# Altium footprint library PcbLib Arduino.PcbLib: 4 footprints
Each footprint in its own frame and in the unit in brackets; x right, y up, seen from the top. Pads: shape width x height; smd on the part's side, far side on the other; paste and mask are expansions set on the pad; w line width, h text height; cw(c..) or ccw(c..) is an arc to the next point about the centre after c.
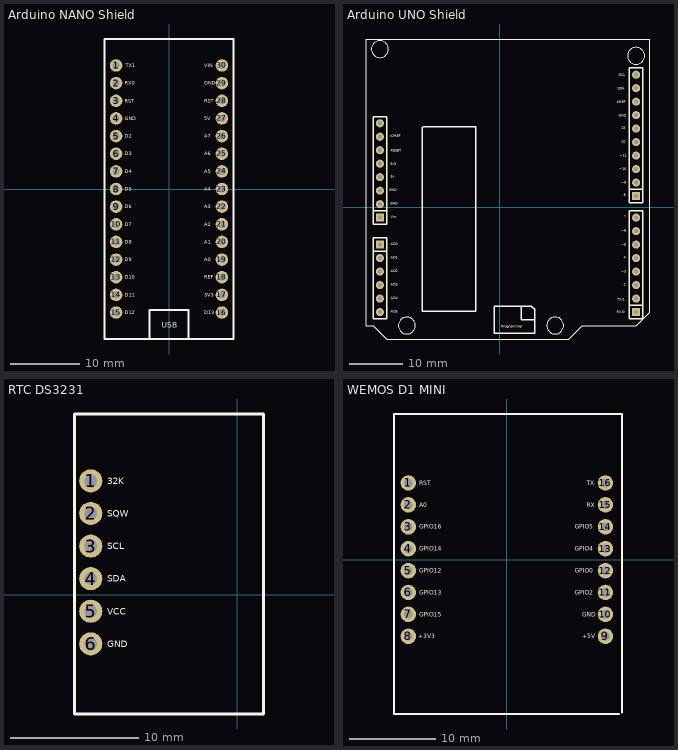
[diagram p0: the footprints below, top view; thin cyan lines are the x and y axes]

## Arduino NANO Shield [mm] "Arduino Nano footprint"
pads (30):
  round 1.8 hole 1: 1(-7.62,17.78) 2(-7.62,15.24) 3(-7.62,12.7) 4(-7.62,10.16) 5(-7.62,7.62) 6(-7.62,5.08) 7(-7.62,2.54) 8(-7.62,0) 9(-7.62,-2.54) 10(-7.62,-5.08) 11(-7.62,-7.62) 12(-7.62,-10.16) 13(-7.62,-12.7) 14(-7.62,-15.24) 15(-7.62,-17.78) 16(7.62,-17.78) 17(7.62,-15.24) 18(7.62,-12.7) 19(7.62,-10.16) 20(7.62,-7.62) 21(7.62,-5.08) 22(7.62,-2.54) 23(7.62,0) 24(7.62,2.54) 25(7.62,5.08) 26(7.62,7.62) 27(7.62,10.16) 28(7.62,12.7) 29(7.62,15.24) 30(7.62,17.78)
Top Overlay:
  lines w0.254: -2.794,-21.59 -2.794,-17.399 2.794,-17.399 2.794,-21.59 ; -9.271,-21.59 -9.271,21.59 9.271,21.59 9.271,-21.59 -9.271,-21.59
  text "TX1" at -6.223,17.526 h0.51
  text "RX0" at -6.35,14.986 h0.51
  text "RST" at -6.35,12.446 h0.51
  text "GND" at -6.35,9.906 h0.51
  text "D2" at -6.35,7.366 h0.51
  text "D3" at -6.35,4.826 h0.51
  text "D4" at -6.35,2.286 h0.51
  text "D5" at -6.35,-0.254 h0.51
  text "D6" at -6.35,-2.794 h0.51
  text "D7" at -6.35,-5.334 h0.51
  text "D8" at -6.35,-7.874 h0.51
  text "D9" at -6.35,-10.414 h0.51
  text "D10" at -6.35,-12.954 h0.51
  text "D11" at -6.35,-15.494 h0.51
  text "D12" at -6.35,-18.034 h0.51
  text "D13" at 5.08,-18.034 h0.51
  text "3V3" at 5.08,-15.494 h0.51
  text "REF" at 5.08,-12.954 h0.51
  text "A0" at 5.08,-10.414 h0.51
  text "A1" at 5.08,-7.874 h0.51
  text "A2" at 5.08,-5.334 h0.51
  text "A3" at 5.08,-2.794 h0.51
  text "A4" at 5.08,-0.254 h0.51
  text "A5" at 5.08,2.286 h0.51
  text "A6" at 5.08,4.826 h0.51
  text "A7" at 5.08,7.366 h0.51
  text "5V" at 5.08,9.906 h0.51
  text "RST" at 5.08,12.446 h0.51
  text "GND" at 5.08,14.986 h0.51
  text "VIN" at 5.08,17.526 h0.51
  text "USB" at -1.016,-19.939 h0.76

## Arduino UNO Shield [mil] "Arduino UNO Shield Footprint"
pads (32):
  round 60 hole 30: P1.1(-888,621) P1.2(-888,521) P1.3(-888,421) P1.4(-888,321) P1.5(-888,221) P1.6(-888,121) P1.7(-888,21) P2.2(-888,-379) P2.3(-888,-479) P2.4(-888,-579) P2.5(-888,-679) P2.6(-888,-779) P3.2(1012,-679) P3.3(1012,-579) P3.4(1012,-479) P3.5(1012,-379) P3.6(1012,-279) P3.7(1012,-179) P3.8(1012,-79) P4.2(1012,181) P4.3(1012,281) P4.4(1012,381) P4.5(1012,481) P4.6(1012,581) P4.7(1012,681) P4.8(1012,781) P4.9(1012,881) P4.10(1012,981)
  rect 60x60 hole 30: P1.8(-888,-79) P2.1(-888,-279) P3.1(1012,-779) P4.1(1012,81)
Top Overlay:
  circle w5: c-888,1171 r62.99
  circle w5: c1012,1121 r62.99
  circle w5: c412,-879 r62.99
  circle w5: c-688,-879 r62.99
  lines w5: -988,-879 -988,1246 1112,1246 1112,-779 1012,-879 612,-879 512,-979 -838,-979 -938,-879 -988,-879
  lines w10: -938,-29 -838,-29 ; 160.03,-734.51 160.03,-834.51 260.03,-834.51 ; 962,-729 1062,-729 ; -938,-329 -938,-829 -838,-829 -838,-329 ; -938,-329 -838,-329 ; -938,-329 -938,-229 -888,-229 -838,-229 -838,-329 ; 962,131 962,31 1062,31 1062,131 ; 962,131 1062,131 ; 962,131 962,1031 1062,1031 1062,131 ; -938,-129 -838,-129 -838,671 -938,671 -938,-129 ; -573,-774 -573,591 -568,596 -179,596 -179,-774 -573,-774 ; -39.97,-934.51 -39.97,-734.51 235.03,-734.51 260.03,-759.51 260.03,-934.51 -39.97,-934.51 ; 962,-829 1062,-829 1062,-29 962,-29 962,-829
  text "Programmer" at 12,-894 h20
  text "AREF" at 867,771 h20
  text "GND" at 882,671 h20
  text "13" at 902,576 h20
  text "12" at 902,476 h20
  text "~11" at 892,371 h20
  text "~10" at 887,271 h20
  text "~9" at 902,171 h20
  text "8" at 922,81 h20
  text "7" at 924.93,-84 h20
  text "~6" at 902,-184 h20
  text "~5" at 902,-289 h20
  text "4" at 922,-384 h20
  text "~3" at 902,-489 h20
  text "2" at 922,-584 h20
  text "TX/1" at 872,-694 h20
  text "RX/0" at 867,-789 h20
  text "AD5" at -808,-784 h20
  text "AD4" at -808,-684 h20
  text "AD3" at -808,-584 h20
  text "AD2" at -808,-484 h20
  text "AD1" at -808,-384 h20
  text "AD0" at -808,-284 h20
  text "Vin" at -808,-84 h20
  text "GND" at -813,16 h20
  text "GND" at -818,116 h20
  text "5v" at -808,216 h20
  text "3v3" at -813,311 h20
  text "RESET" at -808,411 h20
  text "IOREF" at -813,516 h20
  text "SDA" at 877,871 h20
  text "SCL" at 882,971 h20
3D body "SIL_Socket06.stp": height 334.65, standoff -584.65, extent -938,-829 -838,-229
3D body "SIL_Socket10.stp": height 334.65, standoff -584.65, extent 962,31 1062,1031
3D body "SIL_Socket08_.stp": height 334.65, standoff -584.65, extent 962,-829 1062,-29
3D body "SIL_Socket08_.stp": height 334.65, standoff -584.65, extent -938,-129 -838,671

## RTC DS3231 [mm] "RTC DS3231"
pads (6):
  round 1.8 hole 1: 1(-11.43,8.89) 2(-11.43,6.35) 3(-11.43,3.81) 4(-11.43,1.27) 5(-11.43,-1.27) 6(-11.43,-3.81)
Top Overlay:
  lines w0.254: -12.7,-9.271 2.032,-9.271 2.032,14.097 -12.7,14.097 -12.7,-9.271
  text "32K" at -10.16,8.636 h0.51
  text "SQW" at -10.16,6.096 h0.51
  text "SCL" at -10.16,3.556 h0.51
  text "SDA" at -10.16,1.016 h0.51
  text "VCC" at -10.16,-1.524 h0.51
  text "GND" at -10.16,-4.064 h0.51
3D body "DS3231 RTC.step": height 39.3, standoff -5.45, extent -11.74,-8.987 1.79,13.813

## WEMOS D1 MINI [mm] "WEMOS D1 MINI"
pads (16):
  round 1.8 hole 1: 1(-11.43,8.89) 2(-11.43,6.35) 3(-11.43,3.81) 4(-11.43,1.27) 5(-11.43,-1.27) 6(-11.43,-3.81) 7(-11.43,-6.35) 8(-11.43,-8.89) 9(11.43,-8.89) 10(11.43,-6.35) 11(11.43,-3.81) 12(11.43,-1.27) 13(11.43,1.27) 14(11.43,3.81) 15(11.43,6.35) 16(11.43,8.89)
Top Overlay:
  lines w0.254: 13,-17.907 -13.081,-17.907 -13.081,16.891 13.335,16.891 13.335,-17.733
  text "TX" at 9.271,8.636 h0.51
  text "RX" at 9.271,6.096 h0.51
  text "GPIO5" at 7.874,3.556 h0.51
  text "GPIO4" at 7.874,1.016 h0.51
  text "GPIO0" at 7.874,-1.524 h0.51
  text "GPIO2" at 7.874,-4.064 h0.51
  text "GND" at 8.763,-6.604 h0.51
  text "+5V" at 8.763,-9.144 h0.51
  text "+3V3" at -10.287,-9.144 h0.51
  text "GPIO15" at -10.16,-6.604 h0.51
  text "GPIO13" at -10.16,-4.064 h0.51
  text "GPIO12" at -10.16,-1.524 h0.51
  text "GPIO14" at -10.16,1.016 h0.51
  text "GPIO16" at -10.16,3.556 h0.51
  text "A0" at -10.16,6.096 h0.51
  text "RST" at -10.16,8.636 h0.51
3D body "WEMOS-D1-MINI.STEP": height 7.44, standoff -6, extent -12.827,-17.733 12.973,16.717